# EAGLE library part DS3231SN (library electronic-labs)
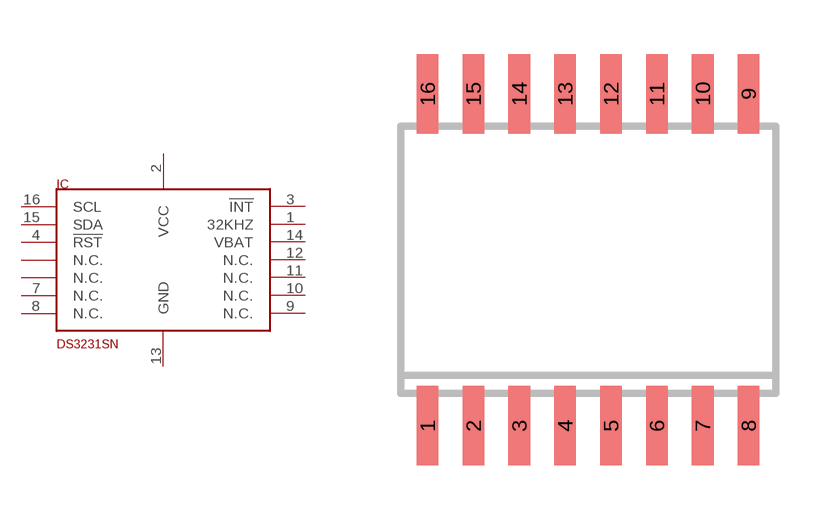
[diagram p10: symbol with the pads of SO16W; footprint SO16W]

Designator prefix IC

## DS3231SN  [SO16W]
1  32KHZ
2  VCC
3  !INT
4  !RST
5  N.C.
6  N.C.
7  N.C.
8  N.C.
9  N.C.
10  N.C.
11  N.C.
12  N.C.
13  GND
14  VBAT
15  SDA
16  SCL

## Footprint SO16W (pad centres in mm)
SMALL OUTLINE INTEGRATED CIRCUIT wide body 7.5 mm/JEDEC MS-013AA
smd 0.6 x 2.2: 1 -4.445,-4.6; 2 -3.175,-4.6; 3 -1.905,-4.6; 4 -0.635,-4.6; 5 0.635,-4.6; 6 1.905,-4.6; 7 3.175,-4.6; 8 4.445,-4.6; 9 4.445,4.6; 10 3.175,4.6; 11 1.905,4.6; 12 0.635,4.6; 13 -0.635,4.6; 14 -1.905,4.6; 15 -3.175,4.6; 16 -4.445,4.6